# Altium schematic symbol library ZH1.5.SchLib: 9 symbols
Pins are listed as number, name and electrical type; pins without a type are passive.

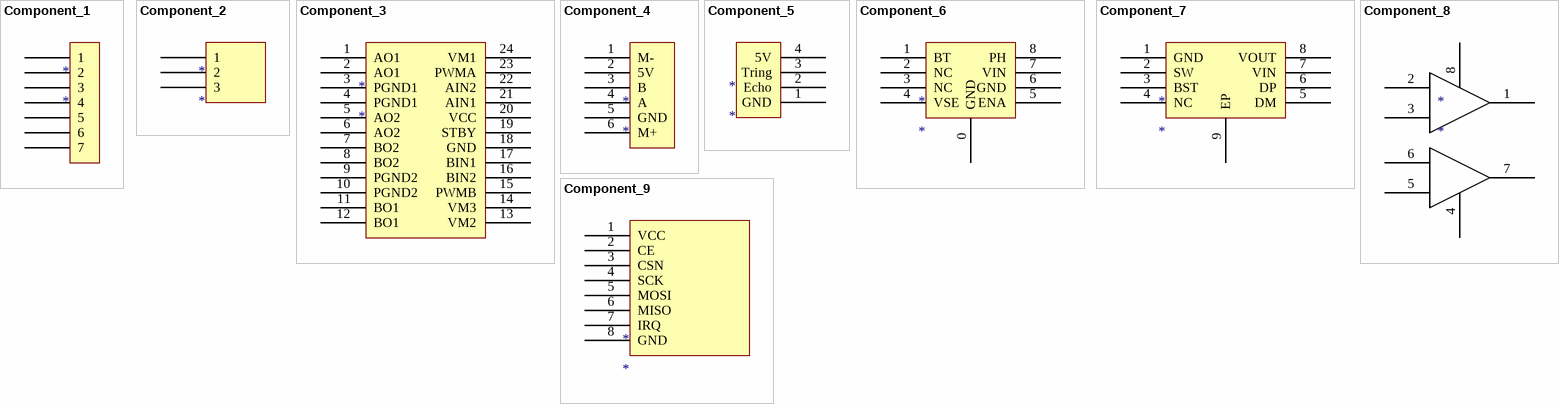
[diagram p0: symbols Component_1 to Component_9]

## Component_1
designator *
pins: ?1 1, ?2 2, ?3 3, ?4 4, ?5 5, ?6 6, ?7 7

## Component_2
designator *
pins: ?1 1, ?2 2, ?3 3

## Component_3
designator *
pins: 1 AO1, 2 AO1, 3 PGND1, 4 PGND1, 5 AO2, 6 AO2, 7 BO2, 8 BO2, 9 PGND2, 10 PGND2, 11 BO1, 12 BO1, 13 VM2, 14 VM3, 15 PWMB, 16 BIN2, 17 BIN1, 18 GND, 19 STBY, 20 VCC, 21 AIN1, 22 AIN2, 23 PWMA, 24 VM1

## Component_4
designator *
pins: 1 M-, 2 5V, 3 B, 4 A, 5 GND, 6 M+

## Component_5
designator *
pins: 1 GND, 2 Echo, 3 Tring, 4 5V

## Component_6
designator *
pins: 0 GND, 1 BT, 2 NC, 3 NC, 4 VSE, 5 ENA, 6 GND, 7 VIN, 8 PH

## Component_7
designator *
pins: 1 GND, 2 SW, 3 BST, 4 NC, 5 DM, 6 DP, 7 VIN, 8 VOUT, 9 EP

## Component_8
designator *
pins: 1, 2, 3, 4, 5, 6, 7, 8

## Component_9
designator *
pins: 1 VCC, 2 CE, 3 CSN, 4 SCK, 5 MOSI, 6 MISO, 7 IRQ, 8 GND